# EAGLE library part MAX256 (library 1A-meinLib)
3W Primary-Side Transformer H-Bridge Driver for Isolated Supplies
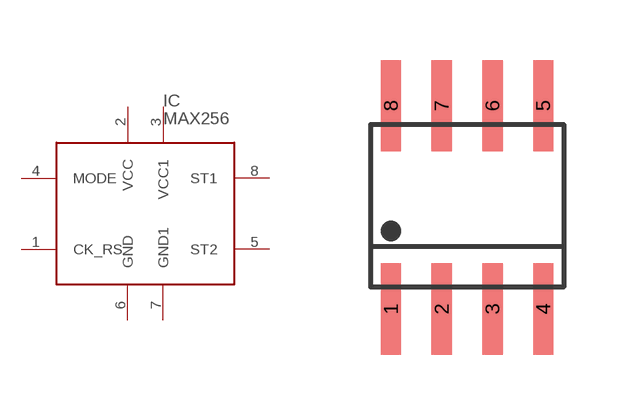
[diagram p369: symbol with the pads of SO-8_M08A; footprint SO-8_M08A]

Designator prefix IC

## MAX256  [SO-8_M08A]
1  CK_RS  in
2  VCC  pas
3  VCC1  pas
4  MODE  in
5  ST2  out
6  GND  pas
7  GND1  pas
8  ST1  out

## Footprint SO-8_M08A (pad centres in mm)
SO-8 Molded Package, NS Packagage Number M08A
smd 0.508 x 2.286: 1 -1.27,-2.54; 2 0,-2.54; 3 1.27,-2.54; 4 2.54,-2.54; 5 2.54,2.54; 6 1.27,2.54; 7 0,2.54; 8 -1.27,2.54